# Altium footprint library Sensors & MEMS.PcbLib: 48 footprints (part 3 of 3)
Each footprint in its own frame and in the unit in brackets; x right, y up, seen from the top. Pads: shape width x height; smd on the part's side, far side on the other; paste and mask are expansions set on the pad; w line width, h text height; cw(c..) or ccw(c..) is an arc to the next point about the centre after c.
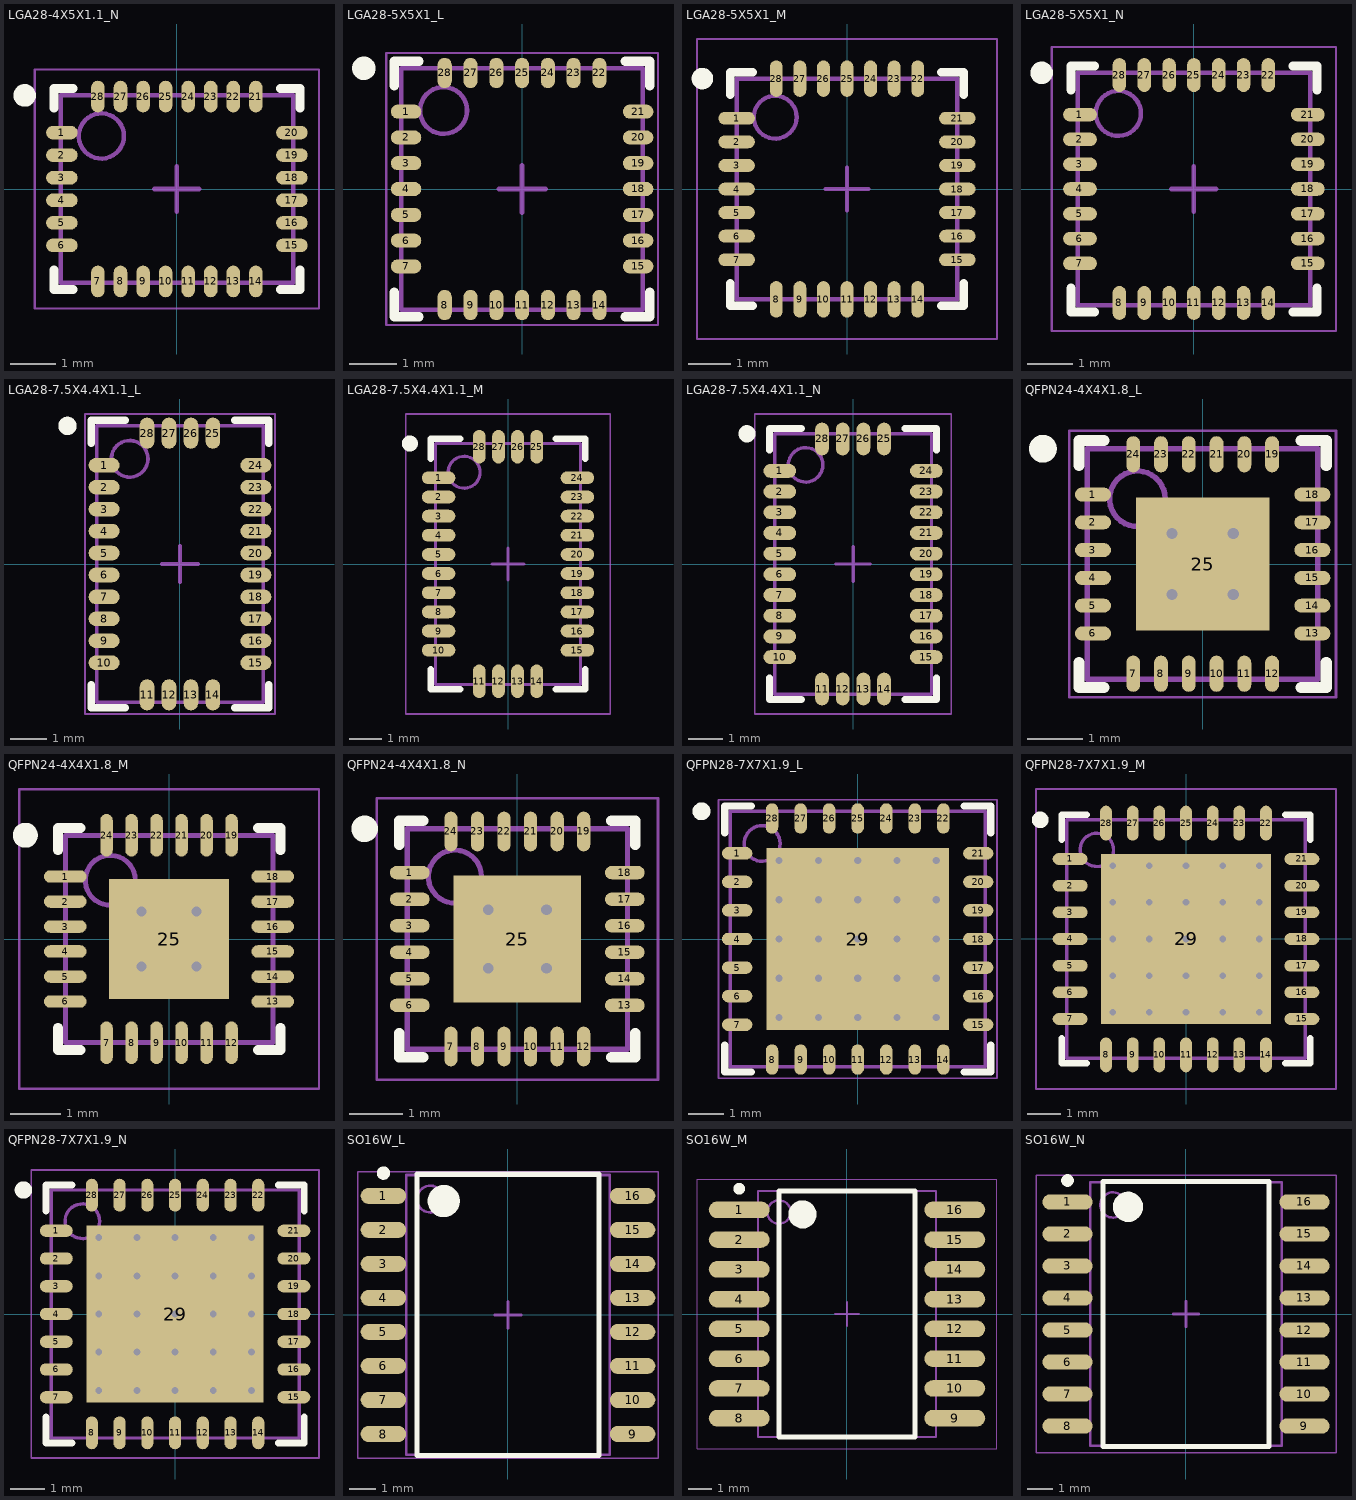
[diagram p2: the footprints below, top view; thin cyan lines are the x and y axes]

## LGA28-4X5X1.1_N [mm] "PQFN, 28-Leads, Body 5x4mm, Pitch 0.5mm, IPC Medium Density"
height 1.1
pads (28):
  oval 0.7x0.3 smd: 1(-2.55,1.25) 2(-2.55,0.75) 3(-2.55,0.25) 4(-2.55,-0.25) 5(-2.55,-0.75) 6(-2.55,-1.25) 15(2.55,-1.25) 16(2.55,-0.75) 17(2.55,-0.25) 18(2.55,0.25) 19(2.55,0.75) 20(2.55,1.25)
  oval 0.3x0.7 smd: 7(-1.75,-2.05) 8(-1.25,-2.05) 9(-0.75,-2.05) 10(-0.25,-2.05) 11(0.25,-2.05) 12(0.75,-2.05) 13(1.25,-2.05) 14(1.75,-2.05) 21(1.75,2.05) 22(1.25,2.05) 23(0.75,2.05) 24(0.25,2.05) 25(-0.25,2.05) 26(-0.75,2.05) 27(-1.25,2.05) 28(-1.75,2.05)
Top Overlay:
  circle w0.25: c-3.375,2.075 r0.125
  lines w0.2: -2.725,-1.8 -2.725,-2.225 -2.3,-2.225 ; -2.725,1.8 -2.725,2.225 -2.3,2.225 ; 2.3,-2.225 2.725,-2.225 2.725,-1.8 ; 2.3,2.225 2.725,2.225 2.725,1.8
Mechanical 13:
  circle w0.1: c-1.675,1.175 r0.5
  lines w0.1: -2.575,-2.075 -2.575,2.075 2.575,2.075 2.575,-2.075 -2.575,-2.075
Mechanical 15:
  lines w0.05: -3.15,-2.65 -3.15,2.65 3.15,2.65 3.15,-2.65 -3.15,-2.65
  lines w0.1: -0.5,0 0.5,0 ; 0,-0.5 0,0.5
3D body: height 1.1, standoff 0, extent -2.575,-2.075 2.575,2.075

## LGA28-5X5X1_L [mm] "PQFN, 28-Leads, Body 5x5mm, Pitch 0.55mm, IPC High Density"
height 1
pads (28):
  oval 0.65x0.3 smd: 1(-2.475,1.65) 2(-2.475,1.1) 3(-2.475,0.55) 4(-2.475,0) 5(-2.475,-0.55) 6(-2.475,-1.1) 7(-2.475,-1.65) 15(2.475,-1.65) 16(2.475,-1.1) 17(2.475,-0.55) 18(2.475,0) 19(2.475,0.55) 20(2.475,1.1) 21(2.475,1.65)
  oval 0.3x0.65 smd: 8(-1.65,-2.475) 9(-1.1,-2.475) 10(-0.55,-2.475) 11(0,-2.475) 12(0.55,-2.475) 13(1.1,-2.475) 14(1.65,-2.475) 22(1.65,2.475) 23(1.1,2.475) 24(0.55,2.475) 25(0,2.475) 26(-0.55,2.475) 27(-1.1,2.475) 28(-1.65,2.475)
Top Overlay:
  circle w0.25: c-3.375,2.575 r0.125
  lines w0.2: -2.725,-2.2 -2.725,-2.725 -2.2,-2.725 ; -2.725,2.2 -2.725,2.725 -2.2,2.725 ; 2.2,-2.725 2.725,-2.725 2.725,-2.2 ; 2.2,2.725 2.725,2.725 2.725,2.2
Mechanical 13:
  circle w0.1: c-1.675,1.675 r0.5
  lines w0.1: -2.575,-2.575 2.575,-2.575 2.575,2.575 -2.575,2.575 -2.575,-2.575
Mechanical 15:
  lines w0.05: -2.9,-2.9 2.9,-2.9 2.9,2.9 -2.9,2.9 -2.9,-2.9
  lines w0.1: -0.5,0 0.5,0 ; 0,-0.5 0,0.5
3D body: height 1, standoff 0, extent -2.575,-2.575 2.575,2.575

## LGA28-5X5X1_M [mm] "PQFN, 28-Leads, Body 5x5mm, Pitch 0.55mm, IPC Low Density"
height 1
pads (28):
  oval 0.85x0.3 smd: 1(-2.575,1.65) 2(-2.575,1.1) 3(-2.575,0.55) 4(-2.575,0) 5(-2.575,-0.55) 6(-2.575,-1.1) 7(-2.575,-1.65) 15(2.575,-1.65) 16(2.575,-1.1) 17(2.575,-0.55) 18(2.575,0) 19(2.575,0.55) 20(2.575,1.1) 21(2.575,1.65)
  oval 0.3x0.85 smd: 8(-1.65,-2.575) 9(-1.1,-2.575) 10(-0.55,-2.575) 11(0,-2.575) 12(0.55,-2.575) 13(1.1,-2.575) 14(1.65,-2.575) 22(1.65,2.575) 23(1.1,2.575) 24(0.55,2.575) 25(0,2.575) 26(-0.55,2.575) 27(-1.1,2.575) 28(-1.65,2.575)
Top Overlay:
  circle w0.25: c-3.375,2.575 r0.125
  lines w0.2: -2.725,-2.2 -2.725,-2.725 -2.2,-2.725 ; -2.725,2.2 -2.725,2.725 -2.2,2.725 ; 2.2,-2.725 2.725,-2.725 2.725,-2.2 ; 2.2,2.725 2.725,2.725 2.725,2.2
Mechanical 13:
  circle w0.1: c-1.675,1.675 r0.5
  lines w0.1: -2.575,-2.575 2.575,-2.575 2.575,2.575 -2.575,2.575 -2.575,-2.575
Mechanical 15:
  lines w0.05: -3.5,-3.5 3.5,-3.5 3.5,3.5 -3.5,3.5 -3.5,-3.5
  lines w0.1: -0.5,0 0.5,0 ; 0,-0.5 0,0.5
3D body: height 1, standoff 0, extent -2.575,-2.575 2.575,2.575

## LGA28-5X5X1_N [mm] "PQFN, 28-Leads, Body 5x5mm, Pitch 0.55mm, IPC Medium Density"
height 1
pads (28):
  oval 0.75x0.3 smd: 1(-2.525,1.65) 2(-2.525,1.1) 3(-2.525,0.55) 4(-2.525,0) 5(-2.525,-0.55) 6(-2.525,-1.1) 7(-2.525,-1.65) 15(2.525,-1.65) 16(2.525,-1.1) 17(2.525,-0.55) 18(2.525,0) 19(2.525,0.55) 20(2.525,1.1) 21(2.525,1.65)
  oval 0.3x0.75 smd: 8(-1.65,-2.525) 9(-1.1,-2.525) 10(-0.55,-2.525) 11(0,-2.525) 12(0.55,-2.525) 13(1.1,-2.525) 14(1.65,-2.525) 22(1.65,2.525) 23(1.1,2.525) 24(0.55,2.525) 25(0,2.525) 26(-0.55,2.525) 27(-1.1,2.525) 28(-1.65,2.525)
Top Overlay:
  circle w0.25: c-3.375,2.575 r0.125
  lines w0.2: -2.725,-2.2 -2.725,-2.725 -2.2,-2.725 ; -2.725,2.2 -2.725,2.725 -2.2,2.725 ; 2.2,-2.725 2.725,-2.725 2.725,-2.2 ; 2.2,2.725 2.725,2.725 2.725,2.2
Mechanical 13:
  circle w0.1: c-1.675,1.675 r0.5
  lines w0.1: -2.575,-2.575 -2.575,2.575 2.575,2.575 2.575,-2.575 -2.575,-2.575
Mechanical 15:
  lines w0.05: -3.15,-3.15 -3.15,3.15 3.15,3.15 3.15,-3.15 -3.15,-3.15
  lines w0.1: -0.5,0 0.5,0 ; 0,-0.5 0,0.5
3D body: height 1, standoff 0, extent -2.575,-2.575 2.575,2.575

## LGA28-7.5X4.4X1.1_L [mm] "PQFN, 28-Leads, Body 4.4x7.5mm, Pitch 0.6mm, IPC High Density"
height 1.1
pads (28):
  oval 0.85x0.4 smd: 1(-2.075,2.7) 2(-2.075,2.1) 3(-2.075,1.5) 4(-2.075,0.9) 5(-2.075,0.3) 6(-2.075,-0.3) 7(-2.075,-0.9) 8(-2.075,-1.5) 9(-2.075,-2.1) 10(-2.075,-2.7) 15(2.075,-2.7) 16(2.075,-2.1) 17(2.075,-1.5) 18(2.075,-0.9) 19(2.075,-0.3) 20(2.075,0.3) 21(2.075,0.9) 22(2.075,1.5) 23(2.075,2.1) 24(2.075,2.7)
  oval 0.4x0.85 smd: 11(-0.9,-3.575) 12(-0.3,-3.575) 13(0.3,-3.575) 14(0.9,-3.575) 25(0.9,3.575) 26(0.3,3.575) 27(-0.3,3.575) 28(-0.9,3.575)
Top Overlay:
  circle w0.25: c-3.075,3.775 r0.125
  lines w0.2: -2.425,-3.3 -2.425,-3.925 -1.5,-3.925 ; -2.425,3.3 -2.425,3.925 -1.5,3.925 ; 1.5,-3.925 2.425,-3.925 2.425,-3.3 ; 1.5,3.925 2.425,3.925 2.425,3.3
Mechanical 13:
  circle w0.1: c-1.375,2.875 r0.5
  lines w0.1: -2.275,-3.775 -2.275,3.775 2.275,3.775 2.275,-3.775 -2.275,-3.775
Mechanical 15:
  lines w0.05: -2.6,-4.1 -2.6,4.1 2.6,4.1 2.6,-4.1 -2.6,-4.1
  lines w0.1: -0.5,0 0.5,0 ; 0,-0.5 0,0.5
3D body: height 1.1, standoff 0, extent -2.275,-3.775 2.275,3.775

## LGA28-7.5X4.4X1.1_M [mm] "PQFN, 28-Leads, Body 4.4x7.5mm, Pitch 0.6mm, IPC Low Density"
height 1.1
pads (28):
  oval 1.05x0.4 smd: 1(-2.175,2.7) 2(-2.175,2.1) 3(-2.175,1.5) 4(-2.175,0.9) 5(-2.175,0.3) 6(-2.175,-0.3) 7(-2.175,-0.9) 8(-2.175,-1.5) 9(-2.175,-2.1) 10(-2.175,-2.7) 15(2.175,-2.7) 16(2.175,-2.1) 17(2.175,-1.5) 18(2.175,-0.9) 19(2.175,-0.3) 20(2.175,0.3) 21(2.175,0.9) 22(2.175,1.5) 23(2.175,2.1) 24(2.175,2.7)
  oval 0.4x1.05 smd: 11(-0.9,-3.675) 12(-0.3,-3.675) 13(0.3,-3.675) 14(0.9,-3.675) 25(0.9,3.675) 26(0.3,3.675) 27(-0.3,3.675) 28(-0.9,3.675)
Top Overlay:
  circle w0.25: c-3.075,3.775 r0.125
  lines w0.2: -2.425,-3.3 -2.425,-3.925 -1.5,-3.925 ; -2.425,3.3 -2.425,3.925 -1.5,3.925 ; 1.5,-3.925 2.425,-3.925 2.425,-3.3 ; 1.5,3.925 2.425,3.925 2.425,3.3
Mechanical 13:
  circle w0.1: c-1.375,2.875 r0.5
  lines w0.1: -2.275,-3.775 -2.275,3.775 2.275,3.775 2.275,-3.775 -2.275,-3.775
Mechanical 15:
  lines w0.05: -3.2,-4.7 -3.2,4.7 3.2,4.7 3.2,-4.7 -3.2,-4.7
  lines w0.1: -0.5,0 0.5,0 ; 0,-0.5 0,0.5
3D body: height 1.1, standoff 0, extent -2.275,-3.775 2.275,3.775

## LGA28-7.5X4.4X1.1_N [mm] "PQFN, 28-Leads, Body 4.4x7.5mm, Pitch 0.6mm, IPC Medium Density"
height 1.1
pads (28):
  oval 0.95x0.4 smd: 1(-2.125,2.7) 2(-2.125,2.1) 3(-2.125,1.5) 4(-2.125,0.9) 5(-2.125,0.3) 6(-2.125,-0.3) 7(-2.125,-0.9) 8(-2.125,-1.5) 9(-2.125,-2.1) 10(-2.125,-2.7) 15(2.125,-2.7) 16(2.125,-2.1) 17(2.125,-1.5) 18(2.125,-0.9) 19(2.125,-0.3) 20(2.125,0.3) 21(2.125,0.9) 22(2.125,1.5) 23(2.125,2.1) 24(2.125,2.7)
  oval 0.4x0.95 smd: 11(-0.9,-3.625) 12(-0.3,-3.625) 13(0.3,-3.625) 14(0.9,-3.625) 25(0.9,3.625) 26(0.3,3.625) 27(-0.3,3.625) 28(-0.9,3.625)
Top Overlay:
  circle w0.25: c-3.075,3.775 r0.125
  lines w0.2: -2.425,-3.3 -2.425,-3.925 -1.5,-3.925 ; -2.425,3.3 -2.425,3.925 -1.5,3.925 ; 1.5,-3.925 2.425,-3.925 2.425,-3.3 ; 1.5,3.925 2.425,3.925 2.425,3.3
Mechanical 13:
  circle w0.1: c-1.375,2.875 r0.5
  lines w0.1: -2.275,-3.775 2.275,-3.775 2.275,3.775 -2.275,3.775 -2.275,-3.775
Mechanical 15:
  lines w0.05: -2.85,-4.35 2.85,-4.35 2.85,4.35 -2.85,4.35 -2.85,-4.35
  lines w0.1: -0.5,0 0.5,0 ; 0,-0.5 0,0.5
3D body: height 1.1, standoff 0, extent -2.275,-3.775 2.275,3.775

## QFPN24-4X4X1.8_L [mm] "QFN, 24-Leads, Body 4x4mm, Pitch 0.5mm, Thermal Pad 2.4x2.4mm, IPC High Density"
height 1.85
pads (25):
  oval 0.65x0.25 smd: 1(-1.975,1.25) 2(-1.975,0.75) 3(-1.975,0.25) 4(-1.975,-0.25) 5(-1.975,-0.75) 6(-1.975,-1.25) 13(1.975,-1.25) 14(1.975,-0.75) 15(1.975,-0.25) 16(1.975,0.25) 17(1.975,0.75) 18(1.975,1.25)
  oval 0.25x0.65 smd: 7(-1.25,-1.975) 8(-0.75,-1.975) 9(-0.25,-1.975) 10(0.25,-1.975) 11(0.75,-1.975) 12(1.25,-1.975) 19(1.25,1.975) 20(0.75,1.975) 21(0.25,1.975) 22(-0.25,1.975) 23(-0.75,1.975) 24(-1.25,1.975)
  rect 2.4x2.4 smd: 25(0,0)
via 0.55,-0.55 diameter 0.5 hole 0.2
via -0.55,-0.55 diameter 0.5 hole 0.2
via 0.55,0.55 diameter 0.5 hole 0.2
via -0.55,0.55 diameter 0.5 hole 0.2
Top Overlay:
  circle w0.25: c-2.875,2.075 r0.125
  lines w0.2: -2.225,-1.775 -2.225,-2.225 -1.775,-2.225 ; -2.225,1.775 -2.225,2.225 -1.775,2.225 ; 1.775,-2.225 2.225,-2.225 2.225,-1.775 ; 1.775,2.225 2.225,2.225 2.225,1.775
Mechanical 13:
  circle w0.1: c-1.175,1.175 r0.5
  lines w0.1: -2.075,-2.075 2.075,-2.075 2.075,2.075 -2.075,2.075 -2.075,-2.075
Mechanical 15:
  lines w0.05: -2.4,-2.4 2.4,-2.4 2.4,2.4 -2.4,2.4 -2.4,-2.4
  lines w0.1: -0.5,0 0.5,0 ; 0,-0.5 0,0.5
3D body: height 1.85, standoff 0, extent -2.075,-2.075 2.075,2.075

## QFPN24-4X4X1.8_M [mm] "QFN, 24-Leads, Body 4x4mm, Pitch 0.5mm, Thermal Pad 2.4x2.4mm, IPC Low Density"
height 1.85
pads (25):
  oval 0.85x0.25 smd: 1(-2.075,1.25) 2(-2.075,0.75) 3(-2.075,0.25) 4(-2.075,-0.25) 5(-2.075,-0.75) 6(-2.075,-1.25) 13(2.075,-1.25) 14(2.075,-0.75) 15(2.075,-0.25) 16(2.075,0.25) 17(2.075,0.75) 18(2.075,1.25)
  oval 0.25x0.85 smd: 7(-1.25,-2.075) 8(-0.75,-2.075) 9(-0.25,-2.075) 10(0.25,-2.075) 11(0.75,-2.075) 12(1.25,-2.075) 19(1.25,2.075) 20(0.75,2.075) 21(0.25,2.075) 22(-0.25,2.075) 23(-0.75,2.075) 24(-1.25,2.075)
  rect 2.4x2.4 smd: 25(0,0)
via -0.55,0.55 diameter 0.5 hole 0.2
via 0.55,0.55 diameter 0.5 hole 0.2
via -0.55,-0.55 diameter 0.5 hole 0.2
via 0.55,-0.55 diameter 0.5 hole 0.2
Top Overlay:
  circle w0.25: c-2.875,2.075 r0.125
  lines w0.2: -2.225,-1.775 -2.225,-2.225 -1.775,-2.225 ; -2.225,1.775 -2.225,2.225 -1.775,2.225 ; 1.775,-2.225 2.225,-2.225 2.225,-1.775 ; 1.775,2.225 2.225,2.225 2.225,1.775
Mechanical 13:
  circle w0.1: c-1.175,1.175 r0.5
  lines w0.1: -2.075,-2.075 -2.075,2.075 2.075,2.075 2.075,-2.075 -2.075,-2.075
Mechanical 15:
  lines w0.05: -3,-3 -3,3 3,3 3,-3 -3,-3
  lines w0.1: -0.5,0 0.5,0 ; 0,-0.5 0,0.5
3D body: height 1.85, standoff 0, extent -2.075,-2.075 2.075,2.075

## QFPN24-4X4X1.8_N [mm] "QFN, 24-Leads, Body 4x4mm, Pitch 0.5mm, Thermal Pad 2.4x2.4mm, IPC Medium Density"
height 1.85
pads (25):
  oval 0.75x0.25 smd: 1(-2.025,1.25) 2(-2.025,0.75) 3(-2.025,0.25) 4(-2.025,-0.25) 5(-2.025,-0.75) 6(-2.025,-1.25) 13(2.025,-1.25) 14(2.025,-0.75) 15(2.025,-0.25) 16(2.025,0.25) 17(2.025,0.75) 18(2.025,1.25)
  oval 0.25x0.75 smd: 7(-1.25,-2.025) 8(-0.75,-2.025) 9(-0.25,-2.025) 10(0.25,-2.025) 11(0.75,-2.025) 12(1.25,-2.025) 19(1.25,2.025) 20(0.75,2.025) 21(0.25,2.025) 22(-0.25,2.025) 23(-0.75,2.025) 24(-1.25,2.025)
  rect 2.4x2.4 smd: 25(0,0)
via -0.55,0.55 diameter 0.5 hole 0.2
via 0.55,0.55 diameter 0.5 hole 0.2
via -0.55,-0.55 diameter 0.5 hole 0.2
via 0.55,-0.55 diameter 0.5 hole 0.2
Top Overlay:
  circle w0.25: c-2.875,2.075 r0.125
  lines w0.2: -2.225,-1.775 -2.225,-2.225 -1.775,-2.225 ; -2.225,1.775 -2.225,2.225 -1.775,2.225 ; 1.775,-2.225 2.225,-2.225 2.225,-1.775 ; 1.775,2.225 2.225,2.225 2.225,1.775
Mechanical 13:
  circle w0.1: c-1.175,1.175 r0.5
  lines w0.1: -2.075,-2.075 -2.075,2.075 2.075,2.075 2.075,-2.075 -2.075,-2.075
Mechanical 15:
  lines w0.05: -2.65,-2.65 -2.65,2.65 2.65,2.65 2.65,-2.65 -2.65,-2.65
  lines w0.1: -0.5,0 0.5,0 ; 0,-0.5 0,0.5
3D body: height 1.85, standoff 0, extent -2.075,-2.075 2.075,2.075

## QFPN28-7X7X1.9_L [mm] "PQFN, 28-Leads, Body 7x7mm, Pitch 0.8mm, Thermal Pad 5.1x5.1mm, IPC High Density"
height 1.9
pads (29):
  oval 0.85x0.35 smd: 1(-3.375,2.4) 2(-3.375,1.6) 3(-3.375,0.8) 4(-3.375,0) 5(-3.375,-0.8) 6(-3.375,-1.6) 7(-3.375,-2.4) 15(3.375,-2.4) 16(3.375,-1.6) 17(3.375,-0.8) 18(3.375,0) 19(3.375,0.8) 20(3.375,1.6) 21(3.375,2.4)
  oval 0.35x0.85 smd: 8(-2.4,-3.375) 9(-1.6,-3.375) 10(-0.8,-3.375) 11(0,-3.375) 12(0.8,-3.375) 13(1.6,-3.375) 14(2.4,-3.375) 22(2.4,3.375) 23(1.6,3.375) 24(0.8,3.375) 25(0,3.375) 26(-0.8,3.375) 27(-1.6,3.375) 28(-2.4,3.375)
  rect 5.1x5.1 smd: 29(0,0)
via -2.2,2.2 diameter 0.5 hole 0.2
via -1.1,2.2 diameter 0.5 hole 0.2
via 0,2.2 diameter 0.5 hole 0.2
via 1.1,2.2 diameter 0.5 hole 0.2
via 2.2,2.2 diameter 0.5 hole 0.2
via -2.2,1.1 diameter 0.5 hole 0.2
via -1.1,1.1 diameter 0.5 hole 0.2
via 0,1.1 diameter 0.5 hole 0.2
via 1.1,1.1 diameter 0.5 hole 0.2
via 2.2,1.1 diameter 0.5 hole 0.2
via -2.2,0 diameter 0.5 hole 0.2
via -1.1,0 diameter 0.5 hole 0.2
via 0,0 diameter 0.5 hole 0.2
via 1.1,0 diameter 0.5 hole 0.2
via 2.2,0 diameter 0.5 hole 0.2
via -2.2,-1.1 diameter 0.5 hole 0.2
via -1.1,-1.1 diameter 0.5 hole 0.2
via 0,-1.1 diameter 0.5 hole 0.2
via 1.1,-1.1 diameter 0.5 hole 0.2
via 2.2,-1.1 diameter 0.5 hole 0.2
via -2.2,-2.2 diameter 0.5 hole 0.2
via -1.1,-2.2 diameter 0.5 hole 0.2
via 0,-2.2 diameter 0.5 hole 0.2
via 1.1,-2.2 diameter 0.5 hole 0.2
via 2.2,-2.2 diameter 0.5 hole 0.2
Top Overlay:
  circle w0.25: c-4.375,3.575 r0.125
  lines w0.2: -3.725,-2.975 -3.725,-3.725 -2.975,-3.725 ; -3.725,2.975 -3.725,3.725 -2.975,3.725 ; 2.975,-3.725 3.725,-3.725 3.725,-2.975 ; 2.975,3.725 3.725,3.725 3.725,2.975
Mechanical 13:
  circle w0.1: c-2.675,2.675 r0.5
  lines w0.1: -3.575,-3.575 -3.575,3.575 3.575,3.575 3.575,-3.575 -3.575,-3.575
Mechanical 15:
  lines w0.05: -3.9,-3.9 -3.9,3.9 3.9,3.9 3.9,-3.9 -3.9,-3.9
  lines w0.1: -0.5,0 0.5,0 ; 0,-0.5 0,0.5
3D body: height 1.9, standoff 0, extent -3.575,-3.575 3.575,3.575

## QFPN28-7X7X1.9_M [mm] "PQFN, 28-Leads, Body 7x7mm, Pitch 0.8mm, Thermal Pad 5.1x5.1mm, IPC Low Density"
height 1.9
pads (29):
  oval 1.05x0.35 smd: 1(-3.475,2.4) 2(-3.475,1.6) 3(-3.475,0.8) 4(-3.475,0) 5(-3.475,-0.8) 6(-3.475,-1.6) 7(-3.475,-2.4) 15(3.475,-2.4) 16(3.475,-1.6) 17(3.475,-0.8) 18(3.475,0) 19(3.475,0.8) 20(3.475,1.6) 21(3.475,2.4)
  oval 0.35x1.05 smd: 8(-2.4,-3.475) 9(-1.6,-3.475) 10(-0.8,-3.475) 11(0,-3.475) 12(0.8,-3.475) 13(1.6,-3.475) 14(2.4,-3.475) 22(2.4,3.475) 23(1.6,3.475) 24(0.8,3.475) 25(0,3.475) 26(-0.8,3.475) 27(-1.6,3.475) 28(-2.4,3.475)
  rect 5.1x5.1 smd: 29(0,0)
via 2.2,-2.2 diameter 0.5 hole 0.2
via 1.1,-2.2 diameter 0.5 hole 0.2
via 0,-2.2 diameter 0.5 hole 0.2
via -1.1,-2.2 diameter 0.5 hole 0.2
via -2.2,-2.2 diameter 0.5 hole 0.2
via 2.2,-1.1 diameter 0.5 hole 0.2
via 1.1,-1.1 diameter 0.5 hole 0.2
via 0,-1.1 diameter 0.5 hole 0.2
via -1.1,-1.1 diameter 0.5 hole 0.2
via -2.2,-1.1 diameter 0.5 hole 0.2
via 2.2,0 diameter 0.5 hole 0.2
via 1.1,0 diameter 0.5 hole 0.2
via 0,0 diameter 0.5 hole 0.2
via -1.1,0 diameter 0.5 hole 0.2
via -2.2,0 diameter 0.5 hole 0.2
via 2.2,1.1 diameter 0.5 hole 0.2
via 1.1,1.1 diameter 0.5 hole 0.2
via 0,1.1 diameter 0.5 hole 0.2
via -1.1,1.1 diameter 0.5 hole 0.2
via -2.2,1.1 diameter 0.5 hole 0.2
via 2.2,2.2 diameter 0.5 hole 0.2
via 1.1,2.2 diameter 0.5 hole 0.2
via 0,2.2 diameter 0.5 hole 0.2
via -1.1,2.2 diameter 0.5 hole 0.2
via -2.2,2.2 diameter 0.5 hole 0.2
Top Overlay:
  circle w0.25: c-4.375,3.575 r0.125
  lines w0.2: -3.725,-2.975 -3.725,-3.725 -2.975,-3.725 ; -3.725,2.975 -3.725,3.725 -2.975,3.725 ; 2.975,-3.725 3.725,-3.725 3.725,-2.975 ; 2.975,3.725 3.725,3.725 3.725,2.975
Mechanical 13:
  circle w0.1: c-2.675,2.675 r0.5
  lines w0.1: -3.575,-3.575 3.575,-3.575 3.575,3.575 -3.575,3.575 -3.575,-3.575
Mechanical 15:
  lines w0.05: -4.5,-4.5 4.5,-4.5 4.5,4.5 -4.5,4.5 -4.5,-4.5
  lines w0.1: -0.5,0 0.5,0 ; 0,-0.5 0,0.5
3D body: height 1.9, standoff 0, extent -3.575,-3.575 3.575,3.575

## QFPN28-7X7X1.9_N [mm] "PQFN, 28-Leads, Body 7x7mm, Pitch 0.8mm, Thermal Pad 5.1x5.1mm, IPC Medium Density"
height 1.9
pads (29):
  oval 0.95x0.35 smd: 1(-3.425,2.4) 2(-3.425,1.6) 3(-3.425,0.8) 4(-3.425,0) 5(-3.425,-0.8) 6(-3.425,-1.6) 7(-3.425,-2.4) 15(3.425,-2.4) 16(3.425,-1.6) 17(3.425,-0.8) 18(3.425,0) 19(3.425,0.8) 20(3.425,1.6) 21(3.425,2.4)
  oval 0.35x0.95 smd: 8(-2.4,-3.425) 9(-1.6,-3.425) 10(-0.8,-3.425) 11(0,-3.425) 12(0.8,-3.425) 13(1.6,-3.425) 14(2.4,-3.425) 22(2.4,3.425) 23(1.6,3.425) 24(0.8,3.425) 25(0,3.425) 26(-0.8,3.425) 27(-1.6,3.425) 28(-2.4,3.425)
  rect 5.1x5.1 smd: 29(0,0)
via 2.2,-2.2 diameter 0.5 hole 0.2
via 1.1,-2.2 diameter 0.5 hole 0.2
via 0,-2.2 diameter 0.5 hole 0.2
via -1.1,-2.2 diameter 0.5 hole 0.2
via -2.2,-2.2 diameter 0.5 hole 0.2
via 2.2,-1.1 diameter 0.5 hole 0.2
via 1.1,-1.1 diameter 0.5 hole 0.2
via 0,-1.1 diameter 0.5 hole 0.2
via -1.1,-1.1 diameter 0.5 hole 0.2
via -2.2,-1.1 diameter 0.5 hole 0.2
via 2.2,0 diameter 0.5 hole 0.2
via 1.1,0 diameter 0.5 hole 0.2
via 0,0 diameter 0.5 hole 0.2
via -1.1,0 diameter 0.5 hole 0.2
via -2.2,0 diameter 0.5 hole 0.2
via 2.2,1.1 diameter 0.5 hole 0.2
via 1.1,1.1 diameter 0.5 hole 0.2
via 0,1.1 diameter 0.5 hole 0.2
via -1.1,1.1 diameter 0.5 hole 0.2
via -2.2,1.1 diameter 0.5 hole 0.2
via 2.2,2.2 diameter 0.5 hole 0.2
via 1.1,2.2 diameter 0.5 hole 0.2
via 0,2.2 diameter 0.5 hole 0.2
via -1.1,2.2 diameter 0.5 hole 0.2
via -2.2,2.2 diameter 0.5 hole 0.2
Top Overlay:
  circle w0.25: c-4.375,3.575 r0.125
  lines w0.2: -3.725,-2.975 -3.725,-3.725 -2.975,-3.725 ; -3.725,2.975 -3.725,3.725 -2.975,3.725 ; 2.975,-3.725 3.725,-3.725 3.725,-2.975 ; 2.975,3.725 3.725,3.725 3.725,2.975
Mechanical 13:
  circle w0.1: c-2.675,2.675 r0.5
  lines w0.1: -3.575,-3.575 3.575,-3.575 3.575,3.575 -3.575,3.575 -3.575,-3.575
Mechanical 15:
  lines w0.05: -4.15,-4.15 4.15,-4.15 4.15,4.15 -4.15,4.15 -4.15,-4.15
  lines w0.1: -0.5,0 0.5,0 ; 0,-0.5 0,0.5
3D body: height 1.9, standoff 0, extent -3.575,-3.575 3.575,3.575

## SO16W_L [mm] "SOIC, 16-Leads, Body 10.3x7.5mm, Pitch 1.27mm, IPC High Density"
height 2.64
pads (16):
  oval 1.7x0.6 smd: 1(-4.65,4.445) 2(-4.65,3.175) 3(-4.65,1.905) 4(-4.65,0.635) 5(-4.65,-0.635) 6(-4.65,-1.905) 7(-4.65,-3.175) 8(-4.65,-4.445) 9(4.65,-4.445) 10(4.65,-3.175) 11(4.65,-1.905) 12(4.65,-0.635) 13(4.65,0.635) 14(4.65,1.905) 15(4.65,3.175) 16(4.65,4.445)
Top Overlay:
  circle w0.25: c-4.65,5.295 r0.125
  circle w0.6: c-2.4,4.25 r0.3
  lines w0.2: -3.4,-5.25 -3.4,5.25 3.4,5.25 3.4,-5.25 -3.4,-5.25
Mechanical 13:
  circle w0.1: c-2.9,4.325 r0.5
  lines w0.1: -3.8,-5.225 -3.8,5.225 3.8,5.225 3.8,-5.225 -3.8,-5.225
Mechanical 15:
  lines w0.05: -5.6,-5.35 -5.6,5.35 5.6,5.35 5.6,-5.35 -5.6,-5.35
  lines w0.1: -0.5,0 0.5,0 ; 0,-0.5 0,0.5
3D body: height 2.64, standoff 0.1, extent -3.8,-5.225 3.8,5.225

## SO16W_M [mm] "SOIC, 16-Leads, Body 10.3x7.5mm, Pitch 1.27mm, IPC Low Density"
height 2.64
pads (16):
  oval 2.6x0.7 smd: 1(-4.6,4.445) 2(-4.6,3.175) 3(-4.6,1.905) 4(-4.6,0.635) 5(-4.6,-0.635) 6(-4.6,-1.905) 7(-4.6,-3.175) 8(-4.6,-4.445) 9(4.6,-4.445) 10(4.6,-3.175) 11(4.6,-1.905) 12(4.6,-0.635) 13(4.6,0.635) 14(4.6,1.905) 15(4.6,3.175) 16(4.6,4.445)
Top Overlay:
  circle w0.25: c-4.6,5.345 r0.125
  circle w0.6: c-1.9,4.25 r0.3
  lines w0.2: -2.9,-5.25 -2.9,5.25 2.9,5.25 2.9,-5.25 -2.9,-5.25
Mechanical 13:
  circle w0.1: c-2.9,4.35 r0.5
  lines w0.1: -3.8,-5.25 -3.8,5.25 3.8,5.25 3.8,-5.25 -3.8,-5.25
Mechanical 15:
  lines w0.05: -6.4,-5.75 -6.4,5.75 6.4,5.75 6.4,-5.75 -6.4,-5.75
  lines w0.1: -0.5,0 0.5,0 ; 0,-0.5 0,0.5
3D body: height 2.64, standoff 0.1, extent -3.8,-5.25 3.8,5.25

## SO16W_N [mm] "SOIC, 16-Leads, Body 10.3x7.5mm, Pitch 1.27mm, IPC Medium Density"
height 2.64
pads (16):
  oval 2x0.6 smd: 1(-4.7,4.445) 2(-4.7,3.175) 3(-4.7,1.905) 4(-4.7,0.635) 5(-4.7,-0.635) 6(-4.7,-1.905) 7(-4.7,-3.175) 8(-4.7,-4.445) 9(4.7,-4.445) 10(4.7,-3.175) 11(4.7,-1.905) 12(4.7,-0.635) 13(4.7,0.635) 14(4.7,1.905) 15(4.7,3.175) 16(4.7,4.445)
Top Overlay:
  circle w0.25: c-4.7,5.295 r0.125
  circle w0.6: c-2.3,4.25 r0.3
  lines w0.2: -3.3,-5.25 -3.3,5.25 3.3,5.25 3.3,-5.25 -3.3,-5.25
Mechanical 13:
  circle w0.1: c-2.9,4.325 r0.5
  lines w0.1: -3.8,-5.225 -3.8,5.225 3.8,5.225 3.8,-5.225 -3.8,-5.225
Mechanical 15:
  lines w0.05: -5.95,-5.5 -5.95,5.5 5.95,5.5 5.95,-5.5 -5.95,-5.5
  lines w0.1: -0.5,0 0.5,0 ; 0,-0.5 0,0.5
3D body: height 2.64, standoff 0.1, extent -3.8,-5.225 3.8,5.225